# Altium footprint library nanoDAP.PcbLib: 20 footprints (part 2 of 2)
Each footprint in its own frame and in the unit in brackets; x right, y up, seen from the top. Pads: shape width x height; smd on the part's side, far side on the other; paste and mask are expansions set on the pad; w line width, h text height; cw(c..) or ccw(c..) is an arc to the next point about the centre after c.
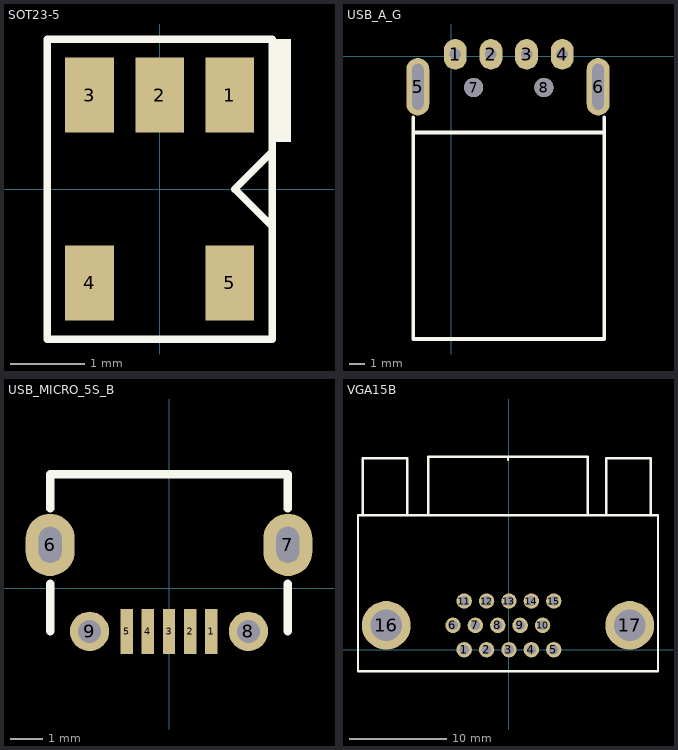
[diagram p1: the footprints below, top view; thin cyan lines are the x and y axes]

## SOT23-5 [mil]
height 47.24
pads (5):
  rect 26x40 smd: 1(37.4,50) 2(0,50) 3(-37.4,50) 4(-37.4,-50) 5(37.4,-50)
Top Overlay:
  rectangle: 60,25 70,80
  lines w4: 60,-20 40,0 60,20 ; -60,-80 60,-80 60,80 -60,80 -60,-80

## USB_A_G [mil]
height 68.9
pads (8):
  oval 60x80 hole 30: 1(10,5) 2(103.33,5) 3(196.67,5) 4(290,5)
  oval 60x150 hole 30 slot 120 at 90 deg: 5(-88,-80) 6(384,-80)
  round 50 hole 50: 7(58,-82) 8(242,-82)
Top Overlay:
  lines w10: -100,-160 -100,-200 ; 400,-160 400,-200 ; -100,-200 400,-200 ; -100,-200 -100,-740 400,-740 400,-200
3D body "USB-AM-S-F-B-TH.STEP": height 177.95, standoff -46.46, extent -96.06,-778.11 396.07,10.47

## USB_MICRO_5S_B [mil]
pads (9):
  rect 15x54 smd: 1(51,-52) 2(25.5,-52) 3(0,-52) 4(-25.5,-52) 5(-51,-52)
  oval 59.06x74.8 hole 27.56 slot 43.31 at 90 deg: 6(-143,52) 7(143,52)
  round 47.24 hole 27.5: 8(95.5,-52) 9(-95.5,-52)
Top Overlay:
  lines w10: -142.72,-52 -142.72,5.28 ; -142.72,95.72 -142.72,136.98 142.72,136.98 142.72,95.72 ; 142.72,-52 142.72,5.28
3D body "User Library-Micro USB-B_Molex_105017-0001.step": height 105.31, standoff -24.61, extent -161.42,-61.33 161.41,152.44

## VGA15B [mm] "15针通讯接口"
pads (17):
  round 1.58 hole 1: 1(-4.6,0) 2(-2.3,0) 3(0,0) 4(2.3,0) 5(4.6,0) 6(-5.75,2.5) 7(-3.45,2.5) 8(-1.15,2.5) 9(1.15,2.5) 10(3.45,2.5) 11(-4.6,5) 12(-2.3,5) 13(0,5) 14(2.3,5) 15(4.6,5)
  round 5 hole 3.25: 16(-12.6,2.5) 17(12.4,2.5)
Top Overlay:
  lines w0.254: -15.5,-2.2 -15.5,13.8 15.3,13.8 15.3,-2.2 -15.49,-2.2 -15.5,-2.19 ; -15,13.8 -15,19.67 -10.43,19.67 -10.43,13.82 ; -8.3,13.8 -8.3,19.8 8.1,19.8 8.1,13.8 ; -0.1,19.5 -0.1,19.8 ; 10,13.8 10,19.68 14.58,19.68 14.58,13.84
Mechanical 15:
  circle w0.05: c0,0 r0.35
  lines w0.05: -0.5,0 0.5,0 ; 0,-0.5 0,0.5
3D body "SW3dPS-Connector, D-Sub, 15 pin HD, RA, Receptacle.STEP": height 12.77, standoff -3.27, extent -15.655,-0.875 15.155,20.225